# Altium schematic symbol library 47272-0001.SchLib: 1 symbol
Pins are listed as number, name and electrical type; pins without a type are passive.

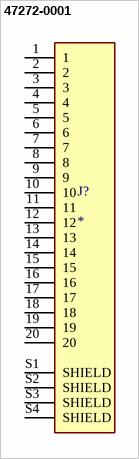
[diagram p0: symbol 47272-0001]

## 47272-0001
designator J?
Conn Display Port RCP 20 POS 0.5mm Solder RA SMD 20 Terminal 1 Port DisplayPort T/R; MP: 47272-0001; MF: {'manufacturer': u'Molex'}; Value: *; Availability: Unavailable; Package: None; Price: None
footprint MOLEX_47272-0001
pins: 1, 2, 3, 4, 5, 6, 7, 8, 9, 10, 11, 12, 13, 14, 15, 16, 17, 18, 19, 20, S1 SHIELD, S2 SHIELD, S3 SHIELD, S4 SHIELD